# Altium footprint library KEYM8.PcbLib: 4 footprints
Each footprint in its own frame and in the unit in brackets; x right, y up, seen from the top. Pads: shape width x height; smd on the part's side, far side on the other; paste and mask are expansions set on the pad; w line width, h text height; cw(c..) or ccw(c..) is an arc to the next point about the centre after c.
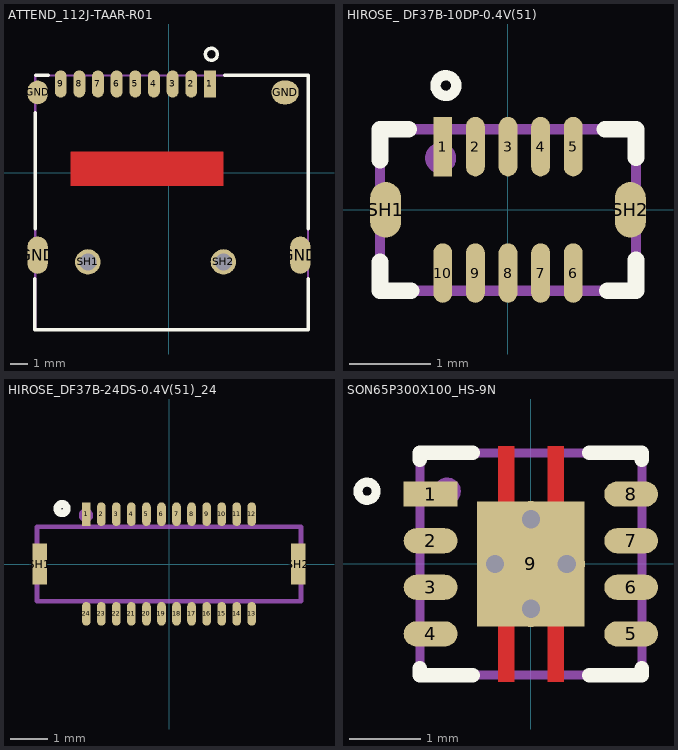
[diagram p0: the footprints below, top view; thin cyan lines are the x and y axes]

## ATTEND_112J-TAAR-R01 [mm]
height 1.95
pads (15):
  rect 0.7x1.6 smd: 1(2.41,5.25)
  oval 0.7x1.6 smd: 2(1.31,5.25) 3(0.21,5.25) 4(-0.89,5.25) 5(-1.99,5.25) 6(-3.09,5.25) 7(-4.19,5.25) 8(-5.29,5.25) 9(-6.39,5.25)
  oval 1.2x2.2 smd: GND(-7.75,-4.85) GND(7.75,-4.85)
  oval 1.2x1.4 smd: GND(-7.75,4.75)
  oval 1.6x1.4 smd: GND(6.85,4.75)
  round 1.5 hole 1: SH1(-4.79,-5.25) SH2(3.21,-5.25)
Top Layer:
  pour cut-out: -5.79,1.25 -5.79,-0.75 3.21,-0.75 3.21,1.25
Top Overlay:
  circle w0.203: c2.5,7 r0.354
  lines w0.203: -7.923,-6.25 -7.923,-9.246 8.21,-9.246 8.21,-6.25 ; -7.89,-3.302 -7.89,3.556 ; -7.874,5.755 -7.112,5.755 ; 3.302,5.755 8.21,5.755 ; 8.21,-3.302 8.21,5.75
Mechanical 1:
  text "'.Designator'" at 0,0 h1.52
Mechanical 15:
  circle w0.127: c2.41,5.25 r0.266
  lines w0.127: -7.89,-9.25 8.21,-9.25 8.21,5.75 -7.89,5.75 -7.89,-9.25
3D body "112J-TXAR-R_C_1.stp": height 1.86, standoff -0.59, extent -7.89,-9.253 8.21,5.75

## HIROSE_ DF37B-10DP-0.4V(51) [mm]
height 0.84
pads (12):
  rect 0.23x0.73 smd mask+0.076: 1(-0.8,0.775)
  oval 0.23x0.73 smd mask+0.076: 2(-0.4,0.775) 3(0,0.775) 4(0.4,0.775) 5(0.8,0.775) 6(0.8,-0.775) 7(0.4,-0.775) 8(0,-0.775) 9(-0.4,-0.775) 10(-0.8,-0.775)
  oval 0.38x0.68 smd: SH1(-1.5,0) SH2(1.5,0)
Top Overlay:
  circle w0.127: c-0.762,1.524 r0.127
  lines w0.203: -1.57,-0.64 -1.57,-0.991 -1.19,-0.991 ; -1.57,0.61 -1.57,0.989 -1.219,0.989 ; 1.19,0.989 1.57,0.989 1.57,0.639 ; 1.219,-0.991 1.57,-0.991 1.57,-0.611
Mechanical 1:
  text "'.Designator'" at 0,0 h1.52
Mechanical 15:
  circle w0.127: c-0.826,0.635 r0.127
  lines w0.127: -1.57,-0.991 1.57,-0.991 1.57,0.989 -1.57,0.989 -1.57,-0.991
3D body "DF37B-10DP-0.4V.stp": height 0.72, standoff -0.04, extent -1.57,-0.991 1.57,0.989

## HIROSE_DF37B-24DS-0.4V(51)_24 [mm]
height 0.84
pads (26):
  rect 0.23x0.63 smd mask+0.076: 1(-2.2,1.325)
  oval 0.23x0.63 smd mask+0.076: 2(-1.8,1.325) 3(-1.4,1.325) 4(-1,1.325) 5(-0.6,1.325) 6(-0.2,1.325) 7(0.2,1.325) 8(0.6,1.325) 9(1,1.325) 10(1.4,1.325) 11(1.8,1.325) 12(2.2,1.325) 13(2.2,-1.325) 14(1.8,-1.325) 15(1.4,-1.325) 16(1,-1.325) 17(0.6,-1.325) 18(0.2,-1.325) 19(-0.2,-1.325) 20(-0.6,-1.325) 21(-1,-1.325) 22(-1.4,-1.325) 23(-1.8,-1.325) 24(-2.2,-1.325)
  rect 0.38x1.1 smd: SH1(-3.44,0) SH2(3.44,0)
Top Overlay:
  circle w0.203: c-2.845,1.473 r0.127
Mechanical 1:
  text "'.Designator'" at 0,0 h1.52
Mechanical 15:
  circle w0.127: c-2.21,1.295 r0.127
  lines w0.127: -3.51,-0.99 -3.51,0.99 3.51,0.99 3.51,-0.99 -3.51,-0.99
3D body: height 0.84, standoff 0, extent -3.51,-0.99 3.51,0.99

## SON65P300X100_HS-9N [mm] "SON, 8-Leads, Body 3.00x3.00mm, Pitch 0.65mm, Thermal Pad 1.75x1.49mm, IPC Medium Density"
height 1
pads (9):
  rect 0.75x0.35 smd: 1(-1.4,0.975)
  oval 0.75x0.35 smd: 2(-1.4,0.325) 3(-1.4,-0.325) 4(-1.4,-0.975) 5(1.4,-0.975) 6(1.4,-0.325) 7(1.4,0.325) 8(1.4,0.975)
  rect 1.5x1.75 smd paste-0.745: 9(0,0)
via 0,-0.625 diameter 0.508 hole 0.254
via 0.5,0 diameter 0.508 hole 0.254
via 0,0.625 diameter 0.508 hole 0.254
via -0.5,0 diameter 0.508 hole 0.254
Top Layer:
  region: -0.23,-0.825 -0.46,-0.825 -0.46,-1.65 -0.23,-1.65
  rectangle: 0.23,-1.65 0.46,-0.825
  region: -0.23,1.65 -0.46,1.65 -0.46,0.825 -0.23,0.825
  rectangle: 0.23,0.825 0.46,1.65
Top Overlay:
  circle w0.127: c-2.286,1.016 r0.127
  lines w0.203: -1.551,1.458 -1.551,1.55 -0.813,1.55 ; -1.55,-1.458 -1.55,-1.55 -0.813,-1.55 ; 0.813,-1.55 1.55,-1.55 1.55,-1.458 ; 0.813,1.55 1.55,1.55 1.55,1.458
Top Paste:
  rectangle: -0.745,-0.848 0.754,0.848
Top Solder:
  region: -0.155,-0.8 -0.536,-0.8 -0.536,-1.726 -0.155,-1.726
  rectangle: 0.155,-1.726 0.536,-0.8
  region: -0.155,1.726 -0.536,1.726 -0.536,0.8 -0.155,0.8
  rectangle: 0.155,0.8 0.536,1.726
Mechanical 1:
  text "'.Designator'" at 0,0 h1.52
Mechanical 15:
  circle w0.127: c-1.168,1.016 r0.127
  lines w0.127: -1.55,-1.55 1.55,-1.55 1.55,1.55 -1.55,1.55 -1.55,-1.55
3D body "SON65P300X100_HS-9N.step": height 1, standoff 0, extent -1.551,-1.55 1.551,1.55